# EAGLE library part 29LE010 (library 29LE010)
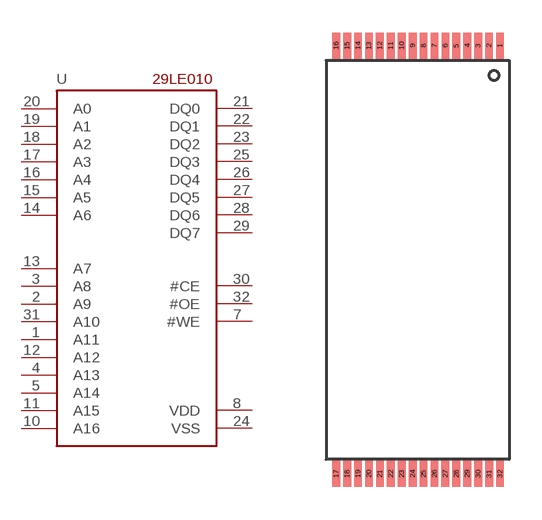
[diagram p0: symbol with the pads of 29LE010; footprint 29LE010]

Designator prefix -

## 29LE010  [29LE010]
1  A11
2  A9
3  A8
4  A13
5  A14
7  #WE
8  VDD
10  A16
11  A15
12  A12
13  A7
14  A6
15  A5
16  A4
17  A3
18  A2
19  A1
20  A0
21  DQ0
22  DQ1
23  DQ2
24  VSS
25  DQ3
26  DQ4
27  DQ5
28  DQ6
29  DQ7
30  #CE
31  A10
32  #OE

## Footprint 29LE010 (pad centres in mm)
smd 0.36 x 1.2: 1 3.892,10.051; 2 3.391,10.051; 3 2.89,10.051; 4 2.389,10.05; 5 1.887,10.05; 6 1.385,10.049; 7 0.883,10.05; 8 0.38,10.051; 9 -0.122,10.05; 10 -0.624,10.05; 11 -1.127,10.05; 12 -1.631,10.049; 13 -2.134,10.049; 14 -2.635,10.05; 15 -3.137,10.05; 16 -3.64,10.05; 17 -3.64,-9.67; 18 -3.137,-9.67; 19 -2.634,-9.668; 20 -2.13,-9.668; 21 -1.629,-9.668; 22 -1.127,-9.669; 23 -0.626,-9.669; 24 -0.123,-9.668; 25 0.379,-9.668; 26 0.881,-9.668; 27 1.384,-9.668; 28 1.887,-9.669; 29 2.39,-9.669; 30 2.892,-9.669; 31 3.395,-9.668; 32 3.898,-9.669